# Altium schematic symbol library SCH - POWER - LINEAR VREG - TI TLV773 DQN.SchLib: 1 symbol
Pins are listed as number, name and electrical type; pins without a type are passive.

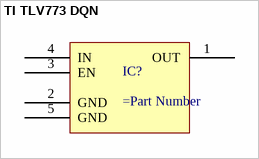
[diagram p0: symbol TI TLV773 DQN]

## TI TLV773 DQN
designator IC?
pins: 1 OUT, 2 GND, 3 EN, 4 IN, 5 GND